# Altium footprint library Connector-Header.PcbLib: 107 footprints (part 6 of 7)
Each footprint in its own frame and in the unit in brackets; x right, y up, seen from the top. Pads: shape width x height; smd on the part's side, far side on the other; paste and mask are expansions set on the pad; w line width, h text height; cw(c..) or ccw(c..) is an arc to the next point about the centre after c.
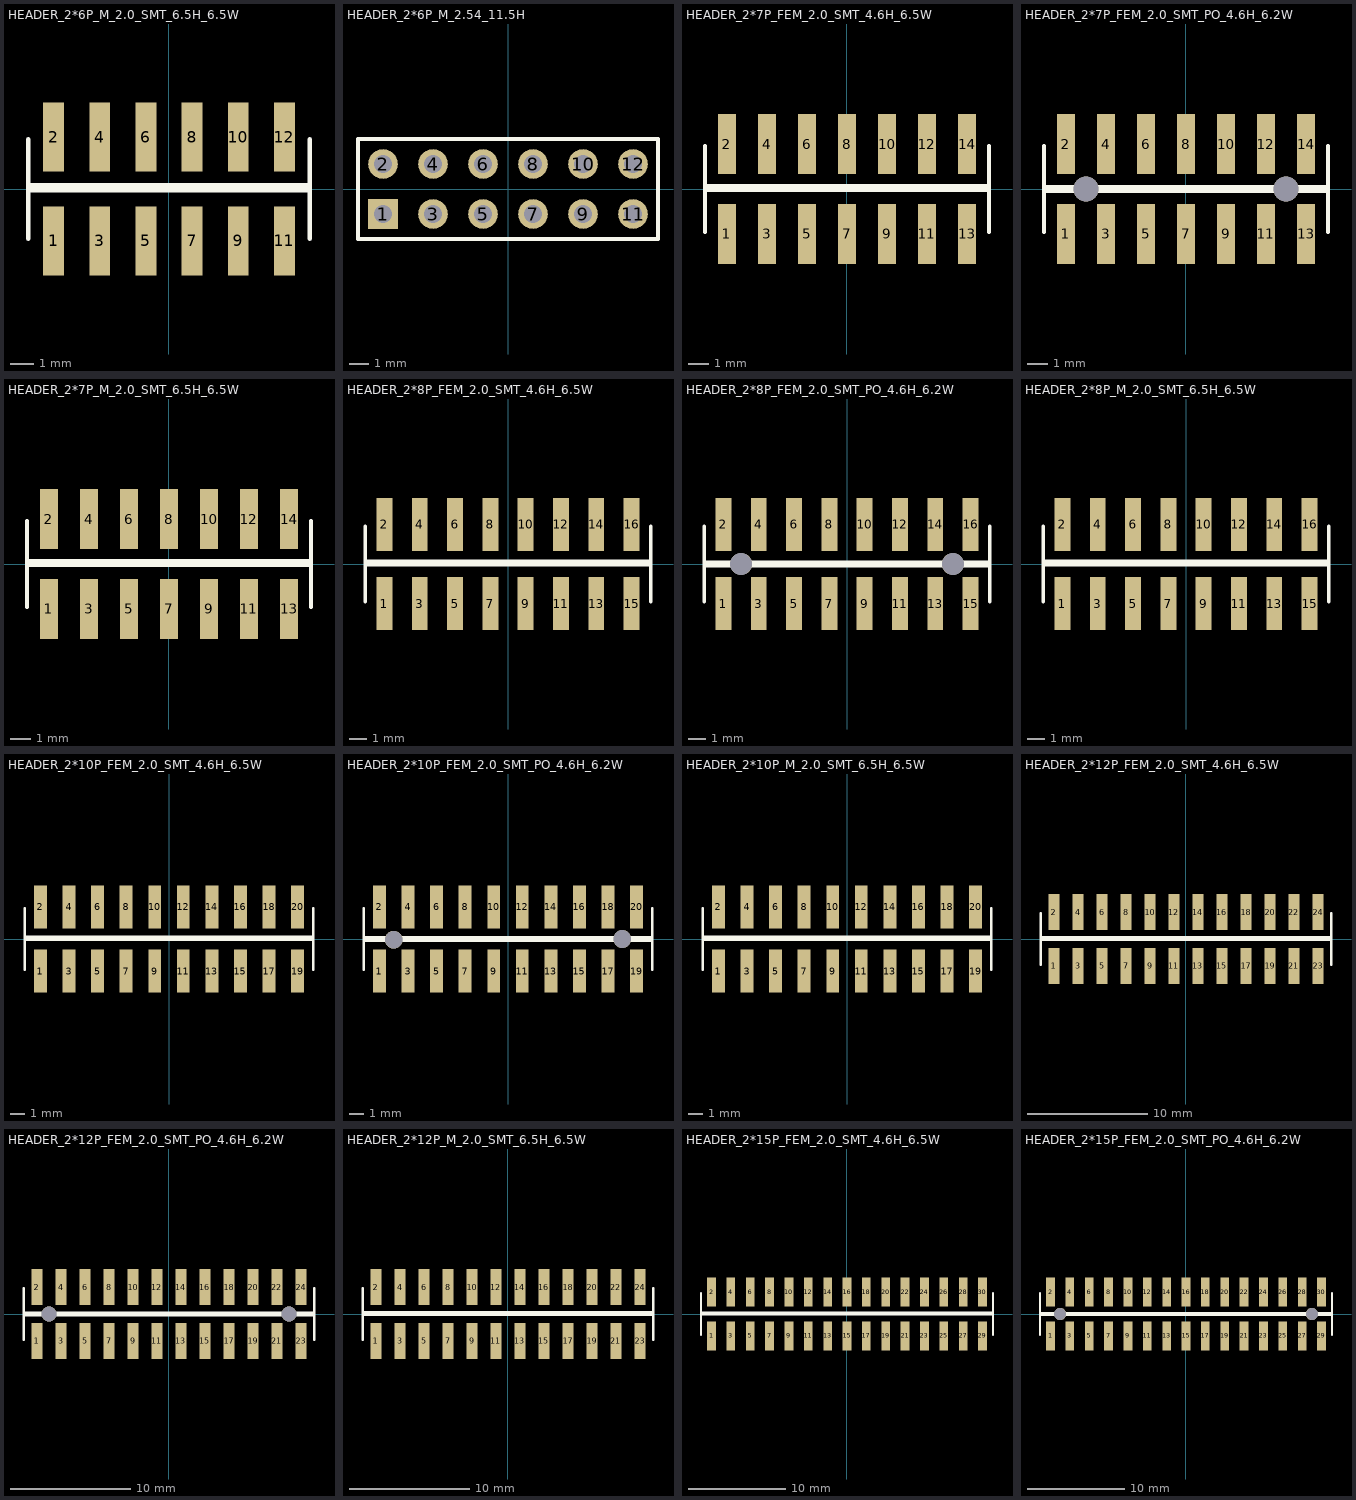
[diagram p5: the footprints below, top view; thin cyan lines are the x and y axes]

## HEADER_2*6P_M_2.0_SMT_6.5H_6.5W [mm]
pads (12):
  rect 0.9x3 smd: 1(-5,-2.25) 2(-5,2.25) 3(-3,-2.25) 4(-3,2.25) 5(-1,-2.25) 6(-1,2.25) 7(1,-2.25) 8(1,2.25) 9(3,-2.25) 10(3,2.25) 11(5,-2.25) 12(5,2.25)
Top Overlay:
  lines w0.203: -6.1,-2.15 -6.1,2.15 ; -6.1,-0.05 6.1,-0.05 ; -6.1,0.15 6.1,0.15 ; 6.1,-2.15 6.1,2.15

## HEADER_2*6P_M_2.54_11.5H [mm] "Connector; Header; 6x2 Position"
pads (12):
  rect 1.5x1.5 hole 0.9: 1(-6.35,-1.27)
  round 1.5 hole 0.9: 2(-6.35,1.27) 3(-3.81,-1.27) 4(-3.81,1.27) 5(-1.27,-1.27) 6(-1.27,1.27) 7(1.27,-1.27) 8(1.27,1.27) 9(3.81,-1.27) 10(3.81,1.27) 11(6.35,-1.27) 12(6.35,1.27)
Top Overlay:
  lines w0.2: -7.62,-2.54 7.62,-2.54 7.62,2.54 -7.62,2.54 -7.62,-2.54

## HEADER_2*7P_FEM_2.0_SMT_4.6H_6.5W [mm]
pads (14):
  rect 0.9x3 smd: 1(-6,-2.25) 2(-6,2.25) 3(-4,-2.25) 4(-4,2.25) 5(-2,-2.25) 6(-2,2.25) 7(0,-2.25) 8(0,2.25) 9(2,-2.25) 10(2,2.25) 11(4,-2.25) 12(4,2.25) 13(6,-2.25) 14(6,2.25)
Top Overlay:
  lines w0.203: -7.1,-2.15 -7.1,2.15 ; -7.1,-0.05 7.1,-0.05 ; -7.1,0.15 7,0.15 ; 7.1,-2.15 7.1,2.15

## HEADER_2*7P_FEM_2.0_SMT_PO_4.6H_6.2W [mm]
pads (16):
  rect 0.9x3 smd: 1(-6,-2.25) 2(-6,2.25) 3(-4,-2.25) 4(-4,2.25) 5(-2,-2.25) 6(-2,2.25) 7(0,-2.25) 8(0,2.25) 9(2,-2.25) 10(2,2.25) 11(4,-2.25) 12(4,2.25) 13(6,-2.25) 14(6,2.25)
  round 1.25 hole 1.25: ""(-5,0) ""(5,0)
Top Overlay:
  lines w0.203: -7.1,-2.15 -7.1,2.15 ; -7.1,-0.1 7.1,-0.1 ; -7.1,0.1 7,0.1 ; 7.1,-2.15 7.1,2.15

## HEADER_2*7P_M_2.0_SMT_6.5H_6.5W [mm]
pads (14):
  rect 0.9x3 smd: 1(-6,-2.25) 2(-6,2.25) 3(-4,-2.25) 4(-4,2.25) 5(-2,-2.25) 6(-2,2.25) 7(0,-2.25) 8(0,2.25) 9(2,-2.25) 10(2,2.25) 11(4,-2.25) 12(4,2.25) 13(6,-2.25) 14(6,2.25)
Top Overlay:
  lines w0.203: -7.1,-2.15 -7.1,2.15 ; -7.1,-0.05 7.1,-0.05 ; -7.1,0.15 7,0.15 ; 7.1,-2.15 7.1,2.15

## HEADER_2*8P_FEM_2.0_SMT_4.6H_6.5W [mm]
pads (16):
  rect 0.9x3 smd: 1(-7,-2.25) 2(-7,2.25) 3(-5,-2.25) 4(-5,2.25) 5(-3,-2.25) 6(-3,2.25) 7(-1,-2.25) 8(-1,2.25) 9(1,-2.25) 10(1,2.25) 11(3,-2.25) 12(3,2.25) 13(5,-2.25) 14(5,2.25) 15(7,-2.25) 16(7,2.25)
Top Overlay:
  lines w0.203: -8.1,-2.15 -8.1,2.15 ; -8.1,-0.05 8.1,-0.05 ; -8.1,0.15 8.1,0.15 ; 8.1,-2.15 8.1,2.15

## HEADER_2*8P_FEM_2.0_SMT_PO_4.6H_6.2W [mm]
pads (18):
  rect 0.9x3 smd: 1(-7,-2.25) 2(-7,2.25) 3(-5,-2.25) 4(-5,2.25) 5(-3,-2.25) 6(-3,2.25) 7(-1,-2.25) 8(-1,2.25) 9(1,-2.25) 10(1,2.25) 11(3,-2.25) 12(3,2.25) 13(5,-2.25) 14(5,2.25) 15(7,-2.25) 16(7,2.25)
  round 1.25 hole 1.25: ""(-6,0) ""(6,0)
Top Overlay:
  lines w0.203: -8.1,-2.15 -8.1,2.15 ; -8.1,-0.1 8.1,-0.1 ; -8.1,0.1 8.1,0.1 ; 8.1,-2.15 8.1,2.15

## HEADER_2*8P_M_2.0_SMT_6.5H_6.5W [mm]
pads (16):
  rect 0.9x3 smd: 1(-7,-2.25) 2(-7,2.25) 3(-5,-2.25) 4(-5,2.25) 5(-3,-2.25) 6(-3,2.25) 7(-1,-2.25) 8(-1,2.25) 9(1,-2.25) 10(1,2.25) 11(3,-2.25) 12(3,2.25) 13(5,-2.25) 14(5,2.25) 15(7,-2.25) 16(7,2.25)
Top Overlay:
  lines w0.203: -8.1,-2.15 -8.1,2.15 ; -8.1,-0.05 8.1,-0.05 ; -8.1,0.15 8.1,0.15 ; 8.1,-2.15 8.1,2.15

## HEADER_2*10P_FEM_2.0_SMT_4.6H_6.5W [mm]
pads (20):
  rect 0.9x3 smd: 1(-9,-2.25) 2(-9,2.25) 3(-7,-2.25) 4(-7,2.25) 5(-5,-2.25) 6(-5,2.25) 7(-3,-2.25) 8(-3,2.25) 9(-1,-2.25) 10(-1,2.25) 11(1,-2.25) 12(1,2.25) 13(3,-2.25) 14(3,2.25) 15(5,-2.25) 16(5,2.25) 17(7,-2.25) 18(7,2.25) 19(9,-2.25) 20(9,2.25)
Top Overlay:
  lines w0.203: -10.1,-2.15 -10.1,2.15 ; -10.1,-0.05 10.1,-0.05 ; -10.1,0.15 10.1,0.15 ; 10.1,-2.15 10.1,2.15

## HEADER_2*10P_FEM_2.0_SMT_PO_4.6H_6.2W [mm]
pads (22):
  rect 0.9x3 smd: 1(-9,-2.25) 2(-9,2.25) 3(-7,-2.25) 4(-7,2.25) 5(-5,-2.25) 6(-5,2.25) 7(-3,-2.25) 8(-3,2.25) 9(-1,-2.25) 10(-1,2.25) 11(1,-2.25) 12(1,2.25) 13(3,-2.25) 14(3,2.25) 15(5,-2.25) 16(5,2.25) 17(7,-2.25) 18(7,2.25) 19(9,-2.25) 20(9,2.25)
  round 1.25 hole 1.25: ""(-8,-0.05) ""(8,0)
Top Overlay:
  lines w0.203: -10.1,-2.15 -10.1,2.15 ; -10.1,-0.1 10.1,-0.1 ; -10.1,0.1 10.1,0.1 ; 10.1,-2.15 10.1,2.15

## HEADER_2*10P_M_2.0_SMT_6.5H_6.5W [mm]
pads (20):
  rect 0.9x3 smd: 1(-9,-2.25) 2(-9,2.25) 3(-7,-2.25) 4(-7,2.25) 5(-5,-2.25) 6(-5,2.25) 7(-3,-2.25) 8(-3,2.25) 9(-1,-2.25) 10(-1,2.25) 11(1,-2.25) 12(1,2.25) 13(3,-2.25) 14(3,2.25) 15(5,-2.25) 16(5,2.25) 17(7,-2.25) 18(7,2.25) 19(9,-2.25) 20(9,2.25)
Top Overlay:
  lines w0.203: -10.1,-2.15 -10.1,2.15 ; -10.1,-0.05 10.1,-0.05 ; -10.1,0.15 10.1,0.15 ; 10.1,-2.15 10.1,2.15

## HEADER_2*12P_FEM_2.0_SMT_4.6H_6.5W [mm]
pads (24):
  rect 0.9x3 smd: 1(-11,-2.25) 2(-11,2.25) 3(-9,-2.25) 4(-9,2.25) 5(-7,-2.25) 6(-7,2.25) 7(-5,-2.25) 8(-5,2.25) 9(-3,-2.25) 10(-3,2.25) 11(-1,-2.25) 12(-1,2.25) 13(1,-2.25) 14(1,2.25) 15(3,-2.25) 16(3,2.25) 17(5,-2.25) 18(5,2.25) 19(7,-2.25) 20(7,2.25) 21(9,-2.25) 22(9,2.25) 23(11,-2.25) 24(11,2.25)
Top Overlay:
  lines w0.203: -12.1,-2.15 -12.1,2.15 ; -12.1,-0.05 12.1,-0.05 ; -12.1,0.15 12,0.15 ; 12.1,-2.15 12.1,2.15

## HEADER_2*12P_FEM_2.0_SMT_PO_4.6H_6.2W [mm]
pads (26):
  rect 0.9x3 smd: 1(-11,-2.25) 2(-11,2.25) 3(-9,-2.25) 4(-9,2.25) 5(-7,-2.25) 6(-7,2.25) 7(-5,-2.25) 8(-5,2.25) 9(-3,-2.25) 10(-3,2.25) 11(-1,-2.25) 12(-1,2.25) 13(1,-2.25) 14(1,2.25) 15(3,-2.25) 16(3,2.25) 17(5,-2.25) 18(5,2.25) 19(7,-2.25) 20(7,2.25) 21(9,-2.25) 22(9,2.25) 23(11,-2.25) 24(11,2.25)
  round 1.25 hole 1.25: ""(-10,0) ""(10,0)
Top Overlay:
  lines w0.203: -12.1,-2.15 -12.1,2.15 ; -12.1,-0.1 12.1,-0.1 ; -12.1,0.1 12,0.1 ; 12.1,-2.15 12.1,2.15

## HEADER_2*12P_M_2.0_SMT_6.5H_6.5W [mm]
pads (24):
  rect 0.9x3 smd: 1(-11,-2.25) 2(-11,2.25) 3(-9,-2.25) 4(-9,2.25) 5(-7,-2.25) 6(-7,2.25) 7(-5,-2.25) 8(-5,2.25) 9(-3,-2.25) 10(-3,2.25) 11(-1,-2.25) 12(-1,2.25) 13(1,-2.25) 14(1,2.25) 15(3,-2.25) 16(3,2.25) 17(5,-2.25) 18(5,2.25) 19(7,-2.25) 20(7,2.25) 21(9,-2.25) 22(9,2.25) 23(11,-2.25) 24(11,2.25)
Top Overlay:
  lines w0.203: -12.1,-2.15 -12.1,2.15 ; -12.1,-0.05 12.1,-0.05 ; -12.1,0.15 12,0.15 ; 12.1,-2.15 12.1,2.15

## HEADER_2*15P_FEM_2.0_SMT_4.6H_6.5W [mm]
pads (30):
  rect 0.9x3 smd: 1(-14,-2.25) 2(-14,2.25) 3(-12,-2.25) 4(-12,2.25) 5(-10,-2.25) 6(-10,2.25) 7(-8,-2.25) 8(-8,2.25) 9(-6,-2.25) 10(-6,2.25) 11(-4,-2.25) 12(-4,2.25) 13(-2,-2.25) 14(-2,2.25) 15(0,-2.25) 16(0,2.25) 17(2,-2.25) 18(2,2.25) 19(4,-2.25) 20(4,2.25) 21(6,-2.25) 22(6,2.25) 23(8,-2.25) 24(8,2.25) 25(10,-2.25) 26(10,2.25) 27(12,-2.25) 28(12,2.25) 29(14,-2.25) 30(14,2.25)
Top Overlay:
  lines w0.203: -15.1,-2.15 -15.1,2.15 ; -15.1,-0.05 15.1,-0.05 ; -15.1,0.15 15.1,0.15 ; 15.1,-2.15 15.1,2.15

## HEADER_2*15P_FEM_2.0_SMT_PO_4.6H_6.2W [mm]
pads (32):
  rect 0.9x3 smd: 1(-14,-2.25) 2(-14,2.25) 3(-12,-2.25) 4(-12,2.25) 5(-10,-2.25) 6(-10,2.25) 7(-8,-2.25) 8(-8,2.25) 9(-6,-2.25) 10(-6,2.25) 11(-4,-2.25) 12(-4,2.25) 13(-2,-2.25) 14(-2,2.25) 15(0,-2.25) 16(0,2.25) 17(2,-2.25) 18(2,2.25) 19(4,-2.25) 20(4,2.25) 21(6,-2.25) 22(6,2.25) 23(8,-2.25) 24(8,2.25) 25(10,-2.25) 26(10,2.25) 27(12,-2.25) 28(12,2.25) 29(14,-2.25) 30(14,2.25)
  round 1.25 hole 1.25: ""(-13,0) ""(13,0)
Top Overlay:
  lines w0.203: -15.1,-2.15 -15.1,2.15 ; -15.1,-0.1 15.1,-0.1 ; -15.1,0.1 15.1,0.1 ; 15.1,-2.15 15.1,2.15